# Altium integrated library QuickLogic pASIC 1.IntLib: 126 symbols (part 2 of 6)
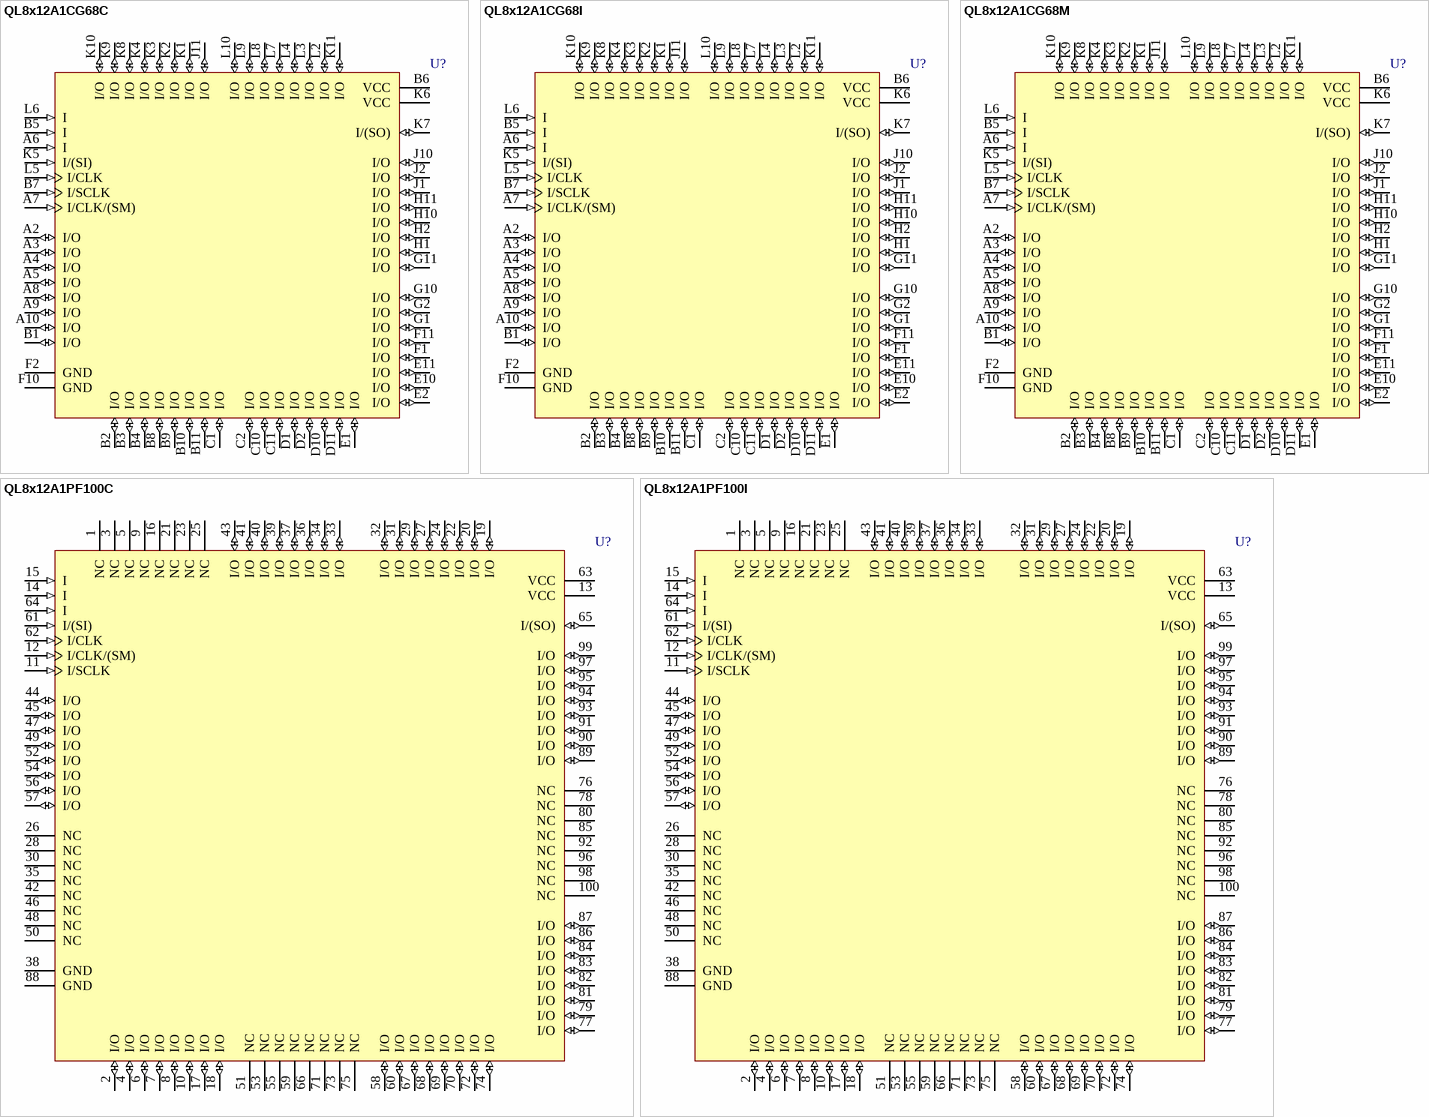
[diagram p29: symbols QL8x12A1CG68C to QL8x12A1PF100I]

## QL8x12A1CG68M
designator U?
Very-High-Speed 1 K (3K) Gate CMOS FPGA; Published: 8-Jun-2000; LatestRevisionDate: 04-Mar-2005; LatestRevisionNote: Stylized 3D Model Added.; DatasheetVersion: 1993; PackageVersion: 1994; PackageReference: CG68; Publisher: Altium Limited; PackageDescription: 69-Pin Ceramic Pin Grid Array 2.54 mm Pitch; ComponentLink1Description: Manufacturer Link; ComponentLink1URL: http://www.quicklogic.com/; ComponentLink2Description: Discontinuation Notice; ComponentLink2URL: http://www.quicklogic.com/images/EOL_Letter_General.pdf
footprint CG68 (PGA, 69-Leads, Body 28x28mm, Pitch 2.54mm)
3D model QL8x12A-CG69 (69-Pin Ceramic Pin Grid Array 2.54 mm Pitch)
pins: A2 I/O (io), A3 I/O (io), A4 I/O (io), A5 I/O (io), A6 I (in), A7 I/CLK/(SM) (in), A8 I/O (io), A9 I/O (io), A10 I/O (io), B1 I/O (io), B2 I/O (io), B3 I/O (io), B4 I/O (io), B5 I (in), B6 VCC (power), B7 I/SCLK (in), B8 I/O (io), B9 I/O (io), B10 I/O (io), B11 I/O (io), C1 I/O (io), C2 I/O (io), C10 I/O (io), C11 I/O (io), D1 I/O (io), D2 I/O (io), D10 I/O (io), D11 I/O (io), E1 I/O (io), E2 I/O (io), E10 I/O (io), E11 I/O (io), F1 I/O (io), F2 GND (power), F10 GND (power), F11 I/O (io), G1 I/O (io), G2 I/O (io), G10 I/O (io), G11 I/O (io), H1 I/O (io), H2 I/O (io), H10 I/O (io), H11 I/O (io), J1 I/O (io), J2 I/O (io), J10 I/O (io), J11 I/O (io), K1 I/O (io), K2 I/O (io), K3 I/O (io), K4 I/O (io), K5 I/(SI) (in), K6 VCC (power), K7 I/(SO) (io), K8 I/O (io), K9 I/O (io), K10 I/O (io), K11 I/O (io), L2 I/O (io), L3 I/O (io), L4 I/O (io), L5 I/CLK (in), L6 I (in), L7 I/O (io), L8 I/O (io), L9 I/O (io), L10 I/O (io)

## QL8x12A1PF100C
designator U?
Very-High-Speed 1 K (3K) Gate CMOS FPGA; Published: 8-Jun-2000; LatestRevisionDate: 13-Apr-2006; LatestRevisionNote: IPC-7351 Footprint Added.; DatasheetVersion: 1993; PackageVersion: Feb-2000; PackageReference: PF100; Publisher: Altium Limited; PackageDescription: 100-Pin Thin Quad Flat Pack 0.5 mm Pitch; Code_JEDEC: MO-136; ComponentLink1Description: Manufacturer Link; ComponentLink1URL: http://www.quicklogic.com/; ComponentLink2Description: Discontinuation Notice; ComponentLink2URL: http://www.quicklogic.com/images/EOL_Letter_General.pdf
footprint PF100_N (Thin QFP, 100-Leads, Body 14x14mm, Pitch 0.5mm, IPC Medium Density)
footprint PF100_L (Thin QFP, 100-Leads, Body 14x14mm, Pitch 0.5mm, IPC High Density)
footprint PF100_M (Thin QFP, 100-Leads, Body 14x14mm, Pitch 0.5mm, IPC Low Density)
3D model QL8x12A-PF100 (100-Pin Thin Quad Flat Pack 0.5 mm Pitch)
pins: 1 NC, 2 I/O (io), 3 NC, 4 I/O (io), 5 NC, 6 I/O (io), 7 I/O (io), 8 I/O (io), 9 NC, 10 I/O (io), 11 I/SCLK (in), 12 I/CLK/(SM) (in), 13 VCC (power), 14 I (in), 15 I (in), 16 NC, 17 I/O (io), 18 I/O (io), 19 I/O (io), 20 I/O (io), 21 NC, 22 I/O (io), 23 NC, 24 I/O (io), 25 NC, 26 NC, 27 I/O (io), 28 NC, 29 I/O (io), 30 NC, 31 I/O (io), 32 I/O (io), 33 I/O (io), 34 I/O (io), 35 NC, 36 I/O (io), 37 I/O (io), 38 GND (power), 39 I/O (io), 40 I/O (io), 41 I/O (io), 42 NC, 43 I/O (io), 44 I/O (io), 45 I/O (io), 46 NC, 47 I/O (io), 48 NC, 49 I/O (io), 50 NC, 51 NC, 52 I/O (io), 53 NC, 54 I/O (io), 55 NC, 56 I/O (io), 57 I/O (io), 58 I/O (io), 59 NC, 60 I/O (io), 61 I/(SI) (in), 62 I/CLK (in), 63 VCC (power), 64 I (in), 65 I/(SO) (io), 66 NC, 67 I/O (io), 68 I/O (io), 69 I/O (io), 70 I/O (io), 71 NC, 72 I/O (io), 73 NC, 74 I/O (io), 75 NC, 76 NC, 77 I/O (io), 78 NC, 79 I/O (io), 80 NC, 81 I/O (io), 82 I/O (io), 83 I/O (io), 84 I/O (io), 85 NC, 86 I/O (io), 87 I/O (io), 88 GND (power), 89 I/O (io), 90 I/O (io), 91 I/O (io), 92 NC, 93 I/O (io), 94 I/O (io), 95 I/O (io), 96 NC, 97 I/O (io), 98 NC, 99 I/O (io), 100 NC

## QL8x12A1PF100I
designator U?
Very-High-Speed 1 K (3K) Gate CMOS FPGA; Published: 8-Jun-2000; LatestRevisionDate: 13-Apr-2006; LatestRevisionNote: IPC-7351 Footprint Added.; DatasheetVersion: 1993; PackageVersion: Feb-2000; PackageReference: PF100; Publisher: Altium Limited; PackageDescription: 100-Pin Thin Quad Flat Pack 0.5 mm Pitch; Code_JEDEC: MO-136; ComponentLink1Description: Manufacturer Link; ComponentLink1URL: http://www.quicklogic.com/; ComponentLink2Description: Discontinuation Notice; ComponentLink2URL: http://www.quicklogic.com/images/EOL_Letter_General.pdf
footprint PF100_N (Thin QFP, 100-Leads, Body 14x14mm, Pitch 0.5mm, IPC Medium Density)
footprint PF100_L (Thin QFP, 100-Leads, Body 14x14mm, Pitch 0.5mm, IPC High Density)
footprint PF100_M (Thin QFP, 100-Leads, Body 14x14mm, Pitch 0.5mm, IPC Low Density)
3D model QL8x12A-PF100 (100-Pin Thin Quad Flat Pack 0.5 mm Pitch)
pins: 1 NC, 2 I/O (io), 3 NC, 4 I/O (io), 5 NC, 6 I/O (io), 7 I/O (io), 8 I/O (io), 9 NC, 10 I/O (io), 11 I/SCLK (in), 12 I/CLK/(SM) (in), 13 VCC (power), 14 I (in), 15 I (in), 16 NC, 17 I/O (io), 18 I/O (io), 19 I/O (io), 20 I/O (io), 21 NC, 22 I/O (io), 23 NC, 24 I/O (io), 25 NC, 26 NC, 27 I/O (io), 28 NC, 29 I/O (io), 30 NC, 31 I/O (io), 32 I/O (io), 33 I/O (io), 34 I/O (io), 35 NC, 36 I/O (io), 37 I/O (io), 38 GND (power), 39 I/O (io), 40 I/O (io), 41 I/O (io), 42 NC, 43 I/O (io), 44 I/O (io), 45 I/O (io), 46 NC, 47 I/O (io), 48 NC, 49 I/O (io), 50 NC, 51 NC, 52 I/O (io), 53 NC, 54 I/O (io), 55 NC, 56 I/O (io), 57 I/O (io), 58 I/O (io), 59 NC, 60 I/O (io), 61 I/(SI) (in), 62 I/CLK (in), 63 VCC (power), 64 I (in), 65 I/(SO) (io), 66 NC, 67 I/O (io), 68 I/O (io), 69 I/O (io), 70 I/O (io), 71 NC, 72 I/O (io), 73 NC, 74 I/O (io), 75 NC, 76 NC, 77 I/O (io), 78 NC, 79 I/O (io), 80 NC, 81 I/O (io), 82 I/O (io), 83 I/O (io), 84 I/O (io), 85 NC, 86 I/O (io), 87 I/O (io), 88 GND (power), 89 I/O (io), 90 I/O (io), 91 I/O (io), 92 NC, 93 I/O (io), 94 I/O (io), 95 I/O (io), 96 NC, 97 I/O (io), 98 NC, 99 I/O (io), 100 NC

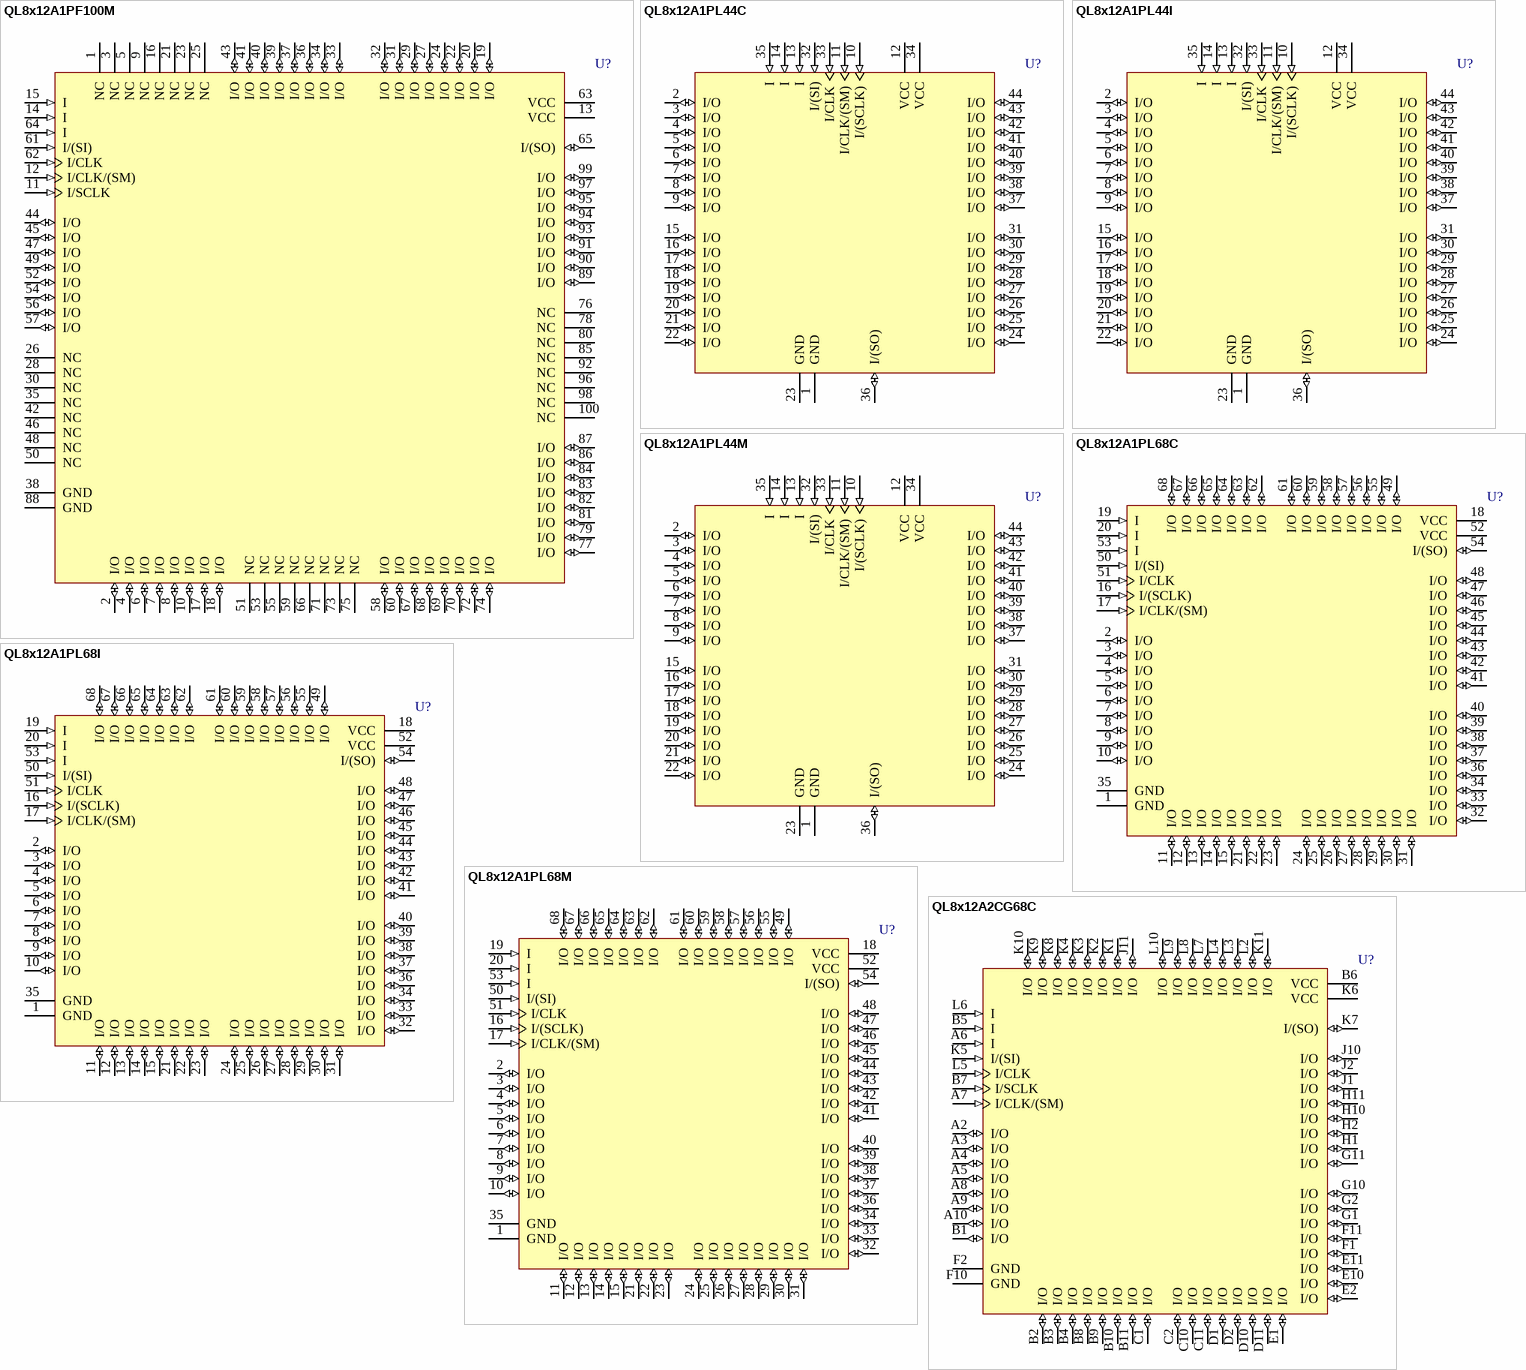
[diagram p4: symbols QL8x12A1PF100M to QL8x12A2CG68C]

## QL8x12A1PF100M
designator U?
Very-High-Speed 1 K (3K) Gate CMOS FPGA; Published: 8-Jun-2000; LatestRevisionDate: 13-Apr-2006; LatestRevisionNote: IPC-7351 Footprint Added.; DatasheetVersion: 1993; PackageVersion: Feb-2000; PackageReference: PF100; Publisher: Altium Limited; PackageDescription: 100-Pin Thin Quad Flat Pack 0.5 mm Pitch; Code_JEDEC: MO-136; ComponentLink1Description: Manufacturer Link; ComponentLink1URL: http://www.quicklogic.com/; ComponentLink2Description: Discontinuation Notice; ComponentLink2URL: http://www.quicklogic.com/images/EOL_Letter_General.pdf
footprint PF100_N (Thin QFP, 100-Leads, Body 14x14mm, Pitch 0.5mm, IPC Medium Density)
footprint PF100_L (Thin QFP, 100-Leads, Body 14x14mm, Pitch 0.5mm, IPC High Density)
footprint PF100_M (Thin QFP, 100-Leads, Body 14x14mm, Pitch 0.5mm, IPC Low Density)
3D model QL8x12A-PF100 (100-Pin Thin Quad Flat Pack 0.5 mm Pitch)
pins: 1 NC, 2 I/O (io), 3 NC, 4 I/O (io), 5 NC, 6 I/O (io), 7 I/O (io), 8 I/O (io), 9 NC, 10 I/O (io), 11 I/SCLK (in), 12 I/CLK/(SM) (in), 13 VCC (power), 14 I (in), 15 I (in), 16 NC, 17 I/O (io), 18 I/O (io), 19 I/O (io), 20 I/O (io), 21 NC, 22 I/O (io), 23 NC, 24 I/O (io), 25 NC, 26 NC, 27 I/O (io), 28 NC, 29 I/O (io), 30 NC, 31 I/O (io), 32 I/O (io), 33 I/O (io), 34 I/O (io), 35 NC, 36 I/O (io), 37 I/O (io), 38 GND (power), 39 I/O (io), 40 I/O (io), 41 I/O (io), 42 NC, 43 I/O (io), 44 I/O (io), 45 I/O (io), 46 NC, 47 I/O (io), 48 NC, 49 I/O (io), 50 NC, 51 NC, 52 I/O (io), 53 NC, 54 I/O (io), 55 NC, 56 I/O (io), 57 I/O (io), 58 I/O (io), 59 NC, 60 I/O (io), 61 I/(SI) (in), 62 I/CLK (in), 63 VCC (power), 64 I (in), 65 I/(SO) (io), 66 NC, 67 I/O (io), 68 I/O (io), 69 I/O (io), 70 I/O (io), 71 NC, 72 I/O (io), 73 NC, 74 I/O (io), 75 NC, 76 NC, 77 I/O (io), 78 NC, 79 I/O (io), 80 NC, 81 I/O (io), 82 I/O (io), 83 I/O (io), 84 I/O (io), 85 NC, 86 I/O (io), 87 I/O (io), 88 GND (power), 89 I/O (io), 90 I/O (io), 91 I/O (io), 92 NC, 93 I/O (io), 94 I/O (io), 95 I/O (io), 96 NC, 97 I/O (io), 98 NC, 99 I/O (io), 100 NC

## QL8x12A1PL44C
designator U?
Very-High-Speed 1 K (3K) Gate CMOS FPGA; Published: 8-Jun-2000; LatestRevisionDate: 13-Apr-2006; LatestRevisionNote: IPC-7351 Footprint Added.; DatasheetVersion: 1993; PackageVersion: 1999; PackageReference: PL44; Publisher: Altium Limited; PackageDescription: 44-Pin Plastic Leaded Chip Carrier 1.27 mm Pitch; Code_IPC: PLCC-44; ComponentLink1Description: Manufacturer Link; ComponentLink1URL: http://www.quicklogic.com/; ComponentLink2Description: Discontinuation Notice; ComponentLink2URL: http://www.quicklogic.com/images/EOL_Letter_General.pdf
footprint PL44_N (Leaded Chip Carrier, 44-Leads, Body 16.6x16.6mm, Pitch 1.27mm, IPC Medium Density)
footprint PL44_L (Leaded Chip Carrier, 44-Leads, Body 16.6x16.6mm, Pitch 1.27mm, IPC High Density)
footprint PL44_M (Leaded Chip Carrier, 44-Leads, Body 16.6x16.6mm, Pitch 1.27mm, IPC Low Density)
3D model QL8x12A-QCC-J44 (44-Pin Plastic Leaded Chip Carrier 1.27 mm Pitch)
pins: 1 GND (power), 2 I/O (io), 3 I/O (io), 4 I/O (io), 5 I/O (io), 6 I/O (io), 7 I/O (io), 8 I/O (io), 9 I/O (io), 10 I/(SCLK) (in), 11 I/CLK/(SM) (in), 12 VCC (power), 13 I (in), 14 I (in), 15 I/O (io), 16 I/O (io), 17 I/O (io), 18 I/O (io), 19 I/O (io), 20 I/O (io), 21 I/O (io), 22 I/O (io), 23 GND (power), 24 I/O (io), 25 I/O (io), 26 I/O (io), 27 I/O (io), 28 I/O (io), 29 I/O (io), 30 I/O (io), 31 I/O (io), 32 I/(SI) (in), 33 I/CLK (in), 34 VCC (power), 35 I (in), 36 I/(SO) (io), 37 I/O (io), 38 I/O (io), 39 I/O (io), 40 I/O (io), 41 I/O (io), 42 I/O (io), 43 I/O (io), 44 I/O (io)

## QL8x12A1PL44I
designator U?
Very-High-Speed 1 K (3K) Gate CMOS FPGA; Published: 8-Jun-2000; LatestRevisionDate: 13-Apr-2006; LatestRevisionNote: IPC-7351 Footprint Added.; DatasheetVersion: 1993; PackageVersion: 1999; PackageReference: PL44; Publisher: Altium Limited; PackageDescription: 44-Pin Plastic Leaded Chip Carrier 1.27 mm Pitch; Code_IPC: PLCC-44; ComponentLink1Description: Manufacturer Link; ComponentLink1URL: http://www.quicklogic.com/; ComponentLink2Description: Discontinuation Notice; ComponentLink2URL: http://www.quicklogic.com/images/EOL_Letter_General.pdf
footprint PL44_N (Leaded Chip Carrier, 44-Leads, Body 16.6x16.6mm, Pitch 1.27mm, IPC Medium Density)
footprint PL44_L (Leaded Chip Carrier, 44-Leads, Body 16.6x16.6mm, Pitch 1.27mm, IPC High Density)
footprint PL44_M (Leaded Chip Carrier, 44-Leads, Body 16.6x16.6mm, Pitch 1.27mm, IPC Low Density)
3D model QL8x12A-QCC-J44 (44-Pin Plastic Leaded Chip Carrier 1.27 mm Pitch)
pins: 1 GND (power), 2 I/O (io), 3 I/O (io), 4 I/O (io), 5 I/O (io), 6 I/O (io), 7 I/O (io), 8 I/O (io), 9 I/O (io), 10 I/(SCLK) (in), 11 I/CLK/(SM) (in), 12 VCC (power), 13 I (in), 14 I (in), 15 I/O (io), 16 I/O (io), 17 I/O (io), 18 I/O (io), 19 I/O (io), 20 I/O (io), 21 I/O (io), 22 I/O (io), 23 GND (power), 24 I/O (io), 25 I/O (io), 26 I/O (io), 27 I/O (io), 28 I/O (io), 29 I/O (io), 30 I/O (io), 31 I/O (io), 32 I/(SI) (in), 33 I/CLK (in), 34 VCC (power), 35 I (in), 36 I/(SO) (io), 37 I/O (io), 38 I/O (io), 39 I/O (io), 40 I/O (io), 41 I/O (io), 42 I/O (io), 43 I/O (io), 44 I/O (io)

## QL8x12A1PL44M
designator U?
Very-High-Speed 1 K (3K) Gate CMOS FPGA; Published: 8-Jun-2000; LatestRevisionDate: 13-Apr-2006; LatestRevisionNote: IPC-7351 Footprint Added.; DatasheetVersion: 1993; PackageVersion: 1999; PackageReference: PL44; Publisher: Altium Limited; PackageDescription: 44-Pin Plastic Leaded Chip Carrier 1.27 mm Pitch; Code_IPC: PLCC-44; ComponentLink1Description: Manufacturer Link; ComponentLink1URL: http://www.quicklogic.com/; ComponentLink2Description: Discontinuation Notice; ComponentLink2URL: http://www.quicklogic.com/images/EOL_Letter_General.pdf
footprint PL44_N (Leaded Chip Carrier, 44-Leads, Body 16.6x16.6mm, Pitch 1.27mm, IPC Medium Density)
footprint PL44_L (Leaded Chip Carrier, 44-Leads, Body 16.6x16.6mm, Pitch 1.27mm, IPC High Density)
footprint PL44_M (Leaded Chip Carrier, 44-Leads, Body 16.6x16.6mm, Pitch 1.27mm, IPC Low Density)
3D model QL8x12A-QCC-J44 (44-Pin Plastic Leaded Chip Carrier 1.27 mm Pitch)
pins: 1 GND (power), 2 I/O (io), 3 I/O (io), 4 I/O (io), 5 I/O (io), 6 I/O (io), 7 I/O (io), 8 I/O (io), 9 I/O (io), 10 I/(SCLK) (in), 11 I/CLK/(SM) (in), 12 VCC (power), 13 I (in), 14 I (in), 15 I/O (io), 16 I/O (io), 17 I/O (io), 18 I/O (io), 19 I/O (io), 20 I/O (io), 21 I/O (io), 22 I/O (io), 23 GND (power), 24 I/O (io), 25 I/O (io), 26 I/O (io), 27 I/O (io), 28 I/O (io), 29 I/O (io), 30 I/O (io), 31 I/O (io), 32 I/(SI) (in), 33 I/CLK (in), 34 VCC (power), 35 I (in), 36 I/(SO) (io), 37 I/O (io), 38 I/O (io), 39 I/O (io), 40 I/O (io), 41 I/O (io), 42 I/O (io), 43 I/O (io), 44 I/O (io)

## QL8x12A1PL68C
designator U?
Very-High-Speed 1 K (3K) Gate CMOS FPGA; Published: 8-Jun-2000; LatestRevisionDate: 13-Apr-2006; LatestRevisionNote: IPC-7351 Footprint Added.; DatasheetVersion: 1993; PackageVersion: Feb-1996; PackageReference: PL68; Publisher: Altium Limited; PackageDescription: 68-Pin Plastic Leaded Chip Carrier 1.27 mm Pitch; Code_IPC: PLCC-68; ComponentLink1Description: Manufacturer Link; ComponentLink1URL: http://www.quicklogic.com/; ComponentLink2Description: Discontinuation Notice; ComponentLink2URL: http://www.quicklogic.com/images/EOL_Letter_General.pdf
footprint PL68_N (Leaded Chip Carrier, 68-Leads, Body 24x24mm, Pitch 1.27mm, IPC Medium Density)
footprint PL68_L (Leaded Chip Carrier, 68-Leads, Body 24x24mm, Pitch 1.27mm, IPC High Density)
footprint PL68_M (Leaded Chip Carrier, 68-Leads, Body 24x24mm, Pitch 1.27mm, IPC Low Density)
3D model QL8x12A-QCC-J68 (68-Pin Plastic Leaded Chip Carrier 1.27 mm Pitch)
pins: 1 GND (power), 2 I/O (io), 3 I/O (io), 4 I/O (io), 5 I/O (io), 6 I/O (io), 7 I/O (io), 8 I/O (io), 9 I/O (io), 10 I/O (io), 11 I/O (io), 12 I/O (io), 13 I/O (io), 14 I/O (io), 15 I/O (io), 16 I/(SCLK) (in), 17 I/CLK/(SM) (in), 18 VCC (power), 19 I (in), 20 I (in), 21 I/O (io), 22 I/O (io), 23 I/O (io), 24 I/O (io), 25 I/O (io), 26 I/O (io), 27 I/O (io), 28 I/O (io), 29 I/O (io), 30 I/O (io), 31 I/O (io), 32 I/O (io), 33 I/O (io), 34 I/O (io), 35 GND (power), 36 I/O (io), 37 I/O (io), 38 I/O (io), 39 I/O (io), 40 I/O (io), 41 I/O (io), 42 I/O (io), 43 I/O (io), 44 I/O (io), 45 I/O (io), 46 I/O (io), 47 I/O (io), 48 I/O (io), 49 I/O (io), 50 I/(SI) (in), 51 I/CLK (in), 52 VCC (power), 53 I (in), 54 I/(SO) (io), 55 I/O (io), 56 I/O (io), 57 I/O (io), 58 I/O (io), 59 I/O (io), 60 I/O (io), 61 I/O (io), 62 I/O (io), 63 I/O (io), 64 I/O (io), 65 I/O (io), 66 I/O (io), 67 I/O (io), 68 I/O (io)

## QL8x12A1PL68I
designator U?
Very-High-Speed 1 K (3K) Gate CMOS FPGA; Published: 8-Jun-2000; LatestRevisionDate: 13-Apr-2006; LatestRevisionNote: IPC-7351 Footprint Added.; DatasheetVersion: 1993; PackageVersion: Feb-1996; PackageReference: PL68; Publisher: Altium Limited; PackageDescription: 68-Pin Plastic Leaded Chip Carrier 1.27 mm Pitch; Code_IPC: PLCC-68; ComponentLink1Description: Manufacturer Link; ComponentLink1URL: http://www.quicklogic.com/; ComponentLink2Description: Discontinuation Notice; ComponentLink2URL: http://www.quicklogic.com/images/EOL_Letter_General.pdf
footprint PL68_N (Leaded Chip Carrier, 68-Leads, Body 24x24mm, Pitch 1.27mm, IPC Medium Density)
footprint PL68_L (Leaded Chip Carrier, 68-Leads, Body 24x24mm, Pitch 1.27mm, IPC High Density)
footprint PL68_M (Leaded Chip Carrier, 68-Leads, Body 24x24mm, Pitch 1.27mm, IPC Low Density)
3D model QL8x12A-QCC-J68 (68-Pin Plastic Leaded Chip Carrier 1.27 mm Pitch)
pins: 1 GND (power), 2 I/O (io), 3 I/O (io), 4 I/O (io), 5 I/O (io), 6 I/O (io), 7 I/O (io), 8 I/O (io), 9 I/O (io), 10 I/O (io), 11 I/O (io), 12 I/O (io), 13 I/O (io), 14 I/O (io), 15 I/O (io), 16 I/(SCLK) (in), 17 I/CLK/(SM) (in), 18 VCC (power), 19 I (in), 20 I (in), 21 I/O (io), 22 I/O (io), 23 I/O (io), 24 I/O (io), 25 I/O (io), 26 I/O (io), 27 I/O (io), 28 I/O (io), 29 I/O (io), 30 I/O (io), 31 I/O (io), 32 I/O (io), 33 I/O (io), 34 I/O (io), 35 GND (power), 36 I/O (io), 37 I/O (io), 38 I/O (io), 39 I/O (io), 40 I/O (io), 41 I/O (io), 42 I/O (io), 43 I/O (io), 44 I/O (io), 45 I/O (io), 46 I/O (io), 47 I/O (io), 48 I/O (io), 49 I/O (io), 50 I/(SI) (in), 51 I/CLK (in), 52 VCC (power), 53 I (in), 54 I/(SO) (io), 55 I/O (io), 56 I/O (io), 57 I/O (io), 58 I/O (io), 59 I/O (io), 60 I/O (io), 61 I/O (io), 62 I/O (io), 63 I/O (io), 64 I/O (io), 65 I/O (io), 66 I/O (io), 67 I/O (io), 68 I/O (io)

## QL8x12A1PL68M
designator U?
Very-High-Speed 1 K (3K) Gate CMOS FPGA; Published: 8-Jun-2000; LatestRevisionDate: 13-Apr-2006; LatestRevisionNote: IPC-7351 Footprint Added.; DatasheetVersion: 1993; PackageVersion: Feb-1996; PackageReference: PL68; Publisher: Altium Limited; PackageDescription: 68-Pin Plastic Leaded Chip Carrier 1.27 mm Pitch; Code_IPC: PLCC-68; ComponentLink1Description: Manufacturer Link; ComponentLink1URL: http://www.quicklogic.com/; ComponentLink2Description: Discontinuation Notice; ComponentLink2URL: http://www.quicklogic.com/images/EOL_Letter_General.pdf
footprint PL68_N (Leaded Chip Carrier, 68-Leads, Body 24x24mm, Pitch 1.27mm, IPC Medium Density)
footprint PL68_L (Leaded Chip Carrier, 68-Leads, Body 24x24mm, Pitch 1.27mm, IPC High Density)
footprint PL68_M (Leaded Chip Carrier, 68-Leads, Body 24x24mm, Pitch 1.27mm, IPC Low Density)
3D model QL8x12A-QCC-J68 (68-Pin Plastic Leaded Chip Carrier 1.27 mm Pitch)
pins: 1 GND (power), 2 I/O (io), 3 I/O (io), 4 I/O (io), 5 I/O (io), 6 I/O (io), 7 I/O (io), 8 I/O (io), 9 I/O (io), 10 I/O (io), 11 I/O (io), 12 I/O (io), 13 I/O (io), 14 I/O (io), 15 I/O (io), 16 I/(SCLK) (in), 17 I/CLK/(SM) (in), 18 VCC (power), 19 I (in), 20 I (in), 21 I/O (io), 22 I/O (io), 23 I/O (io), 24 I/O (io), 25 I/O (io), 26 I/O (io), 27 I/O (io), 28 I/O (io), 29 I/O (io), 30 I/O (io), 31 I/O (io), 32 I/O (io), 33 I/O (io), 34 I/O (io), 35 GND (power), 36 I/O (io), 37 I/O (io), 38 I/O (io), 39 I/O (io), 40 I/O (io), 41 I/O (io), 42 I/O (io), 43 I/O (io), 44 I/O (io), 45 I/O (io), 46 I/O (io), 47 I/O (io), 48 I/O (io), 49 I/O (io), 50 I/(SI) (in), 51 I/CLK (in), 52 VCC (power), 53 I (in), 54 I/(SO) (io), 55 I/O (io), 56 I/O (io), 57 I/O (io), 58 I/O (io), 59 I/O (io), 60 I/O (io), 61 I/O (io), 62 I/O (io), 63 I/O (io), 64 I/O (io), 65 I/O (io), 66 I/O (io), 67 I/O (io), 68 I/O (io)

## QL8x12A2CG68C
designator U?
Very-High-Speed 1 K (3K) Gate CMOS FPGA; Published: 8-Jun-2000; LatestRevisionDate: 04-Mar-2005; LatestRevisionNote: Stylized 3D Model Added.; DatasheetVersion: 1993; PackageVersion: 1994; PackageReference: CG68; Publisher: Altium Limited; PackageDescription: 69-Pin Ceramic Pin Grid Array 2.54 mm Pitch; ComponentLink1Description: Manufacturer Link; ComponentLink1URL: http://www.quicklogic.com/; ComponentLink2Description: Discontinuation Notice; ComponentLink2URL: http://www.quicklogic.com/images/EOL_Letter_General.pdf
footprint CG68 (PGA, 69-Leads, Body 28x28mm, Pitch 2.54mm)
3D model QL8x12A-CG69 (69-Pin Ceramic Pin Grid Array 2.54 mm Pitch)
pins: A2 I/O (io), A3 I/O (io), A4 I/O (io), A5 I/O (io), A6 I (in), A7 I/CLK/(SM) (in), A8 I/O (io), A9 I/O (io), A10 I/O (io), B1 I/O (io), B2 I/O (io), B3 I/O (io), B4 I/O (io), B5 I (in), B6 VCC (power), B7 I/SCLK (in), B8 I/O (io), B9 I/O (io), B10 I/O (io), B11 I/O (io), C1 I/O (io), C2 I/O (io), C10 I/O (io), C11 I/O (io), D1 I/O (io), D2 I/O (io), D10 I/O (io), D11 I/O (io), E1 I/O (io), E2 I/O (io), E10 I/O (io), E11 I/O (io), F1 I/O (io), F2 GND (power), F10 GND (power), F11 I/O (io), G1 I/O (io), G2 I/O (io), G10 I/O (io), G11 I/O (io), H1 I/O (io), H2 I/O (io), H10 I/O (io), H11 I/O (io), J1 I/O (io), J2 I/O (io), J10 I/O (io), J11 I/O (io), K1 I/O (io), K2 I/O (io), K3 I/O (io), K4 I/O (io), K5 I/(SI) (in), K6 VCC (power), K7 I/(SO) (io), K8 I/O (io), K9 I/O (io), K10 I/O (io), K11 I/O (io), L2 I/O (io), L3 I/O (io), L4 I/O (io), L5 I/CLK (in), L6 I (in), L7 I/O (io), L8 I/O (io), L9 I/O (io), L10 I/O (io)

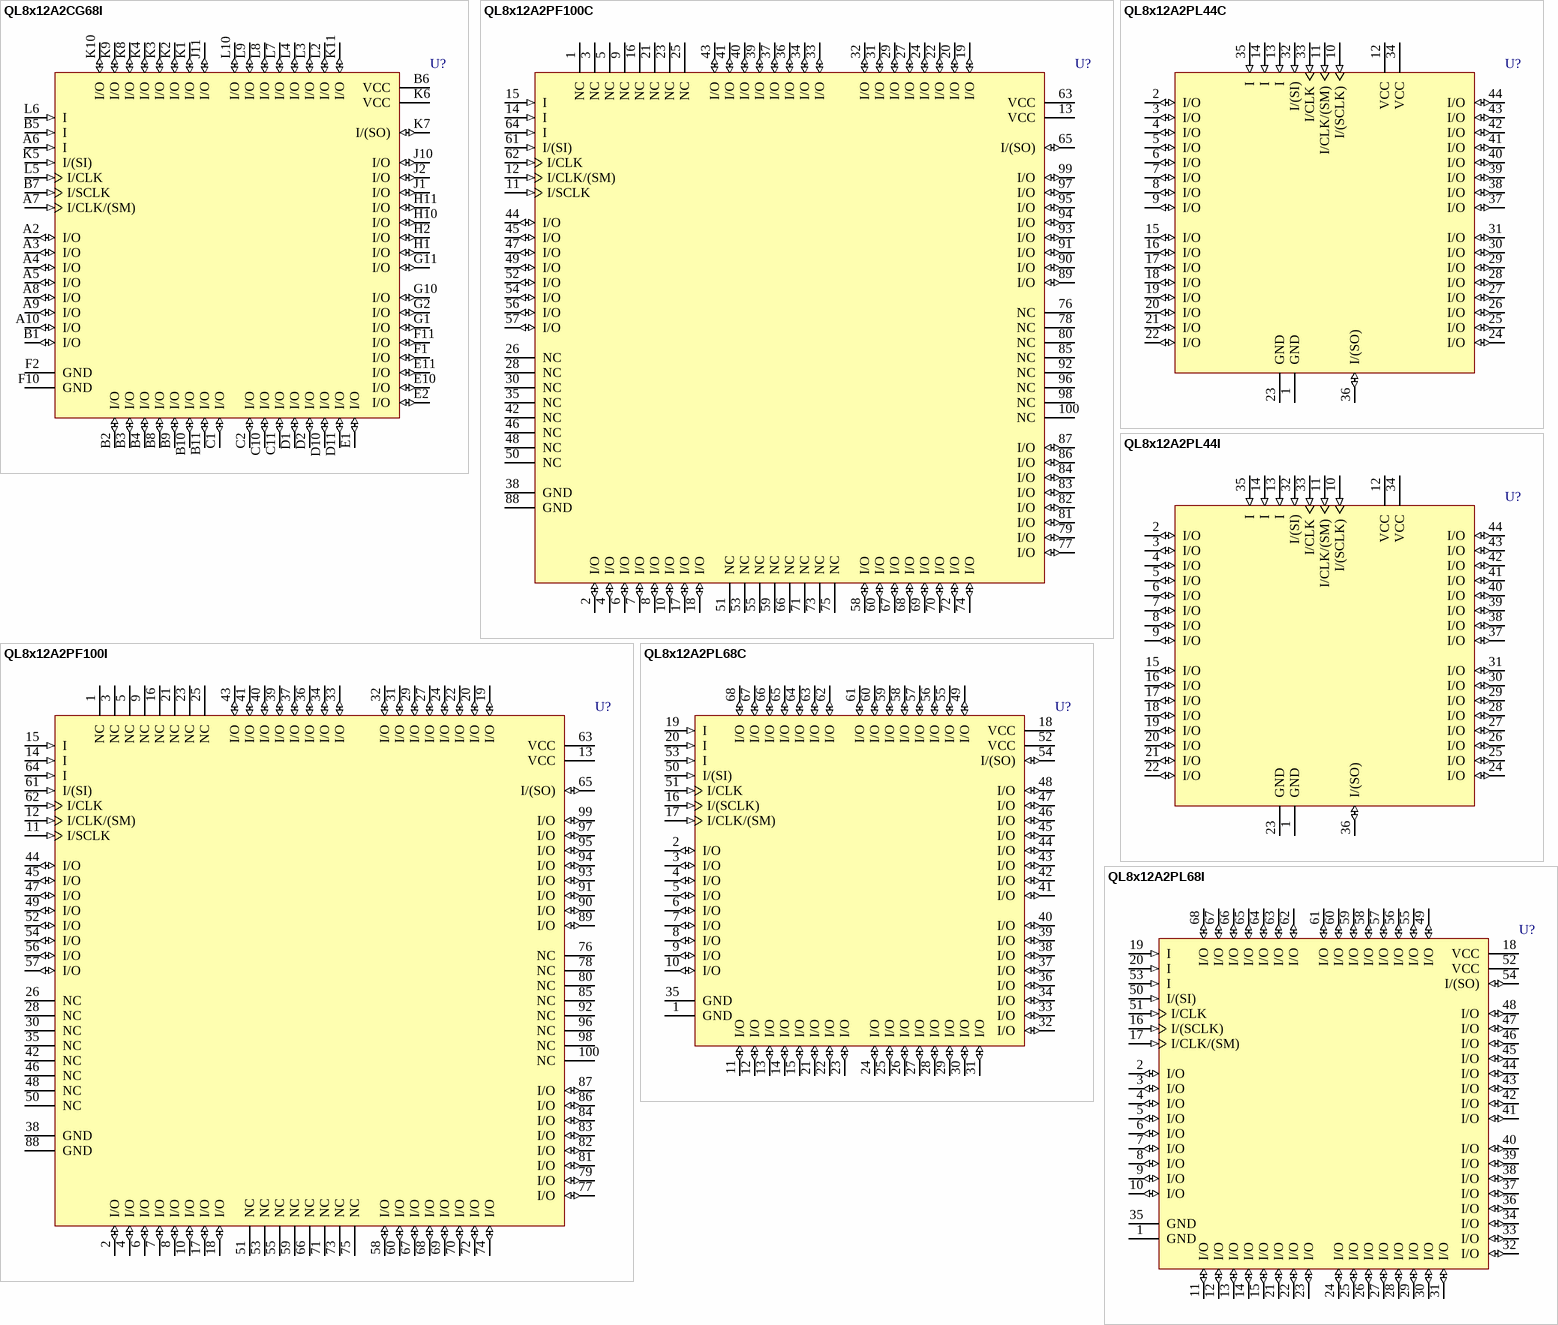
[diagram p5: symbols QL8x12A2CG68I to QL8x12A2PL68I]

## QL8x12A2CG68I
designator U?
Very-High-Speed 1 K (3K) Gate CMOS FPGA; Published: 8-Jun-2000; LatestRevisionDate: 04-Mar-2005; LatestRevisionNote: Stylized 3D Model Added.; DatasheetVersion: 1993; PackageVersion: 1994; PackageReference: CG68; Publisher: Altium Limited; PackageDescription: 69-Pin Ceramic Pin Grid Array 2.54 mm Pitch; ComponentLink1Description: Manufacturer Link; ComponentLink1URL: http://www.quicklogic.com/; ComponentLink2Description: Discontinuation Notice; ComponentLink2URL: http://www.quicklogic.com/images/EOL_Letter_General.pdf
footprint CG68 (PGA, 69-Leads, Body 28x28mm, Pitch 2.54mm)
3D model QL8x12A-CG69 (69-Pin Ceramic Pin Grid Array 2.54 mm Pitch)
pins: A2 I/O (io), A3 I/O (io), A4 I/O (io), A5 I/O (io), A6 I (in), A7 I/CLK/(SM) (in), A8 I/O (io), A9 I/O (io), A10 I/O (io), B1 I/O (io), B2 I/O (io), B3 I/O (io), B4 I/O (io), B5 I (in), B6 VCC (power), B7 I/SCLK (in), B8 I/O (io), B9 I/O (io), B10 I/O (io), B11 I/O (io), C1 I/O (io), C2 I/O (io), C10 I/O (io), C11 I/O (io), D1 I/O (io), D2 I/O (io), D10 I/O (io), D11 I/O (io), E1 I/O (io), E2 I/O (io), E10 I/O (io), E11 I/O (io), F1 I/O (io), F2 GND (power), F10 GND (power), F11 I/O (io), G1 I/O (io), G2 I/O (io), G10 I/O (io), G11 I/O (io), H1 I/O (io), H2 I/O (io), H10 I/O (io), H11 I/O (io), J1 I/O (io), J2 I/O (io), J10 I/O (io), J11 I/O (io), K1 I/O (io), K2 I/O (io), K3 I/O (io), K4 I/O (io), K5 I/(SI) (in), K6 VCC (power), K7 I/(SO) (io), K8 I/O (io), K9 I/O (io), K10 I/O (io), K11 I/O (io), L2 I/O (io), L3 I/O (io), L4 I/O (io), L5 I/CLK (in), L6 I (in), L7 I/O (io), L8 I/O (io), L9 I/O (io), L10 I/O (io)

## QL8x12A2PF100C
designator U?
Very-High-Speed 1 K (3K) Gate CMOS FPGA; Published: 8-Jun-2000; LatestRevisionDate: 13-Apr-2006; LatestRevisionNote: IPC-7351 Footprint Added.; DatasheetVersion: 1993; PackageVersion: Feb-2000; PackageReference: PF100; Publisher: Altium Limited; PackageDescription: 100-Pin Thin Quad Flat Pack 0.5 mm Pitch; Code_JEDEC: MO-136; ComponentLink1Description: Manufacturer Link; ComponentLink1URL: http://www.quicklogic.com/; ComponentLink2Description: Discontinuation Notice; ComponentLink2URL: http://www.quicklogic.com/images/EOL_Letter_General.pdf
footprint PF100_N (Thin QFP, 100-Leads, Body 14x14mm, Pitch 0.5mm, IPC Medium Density)
footprint PF100_L (Thin QFP, 100-Leads, Body 14x14mm, Pitch 0.5mm, IPC High Density)
footprint PF100_M (Thin QFP, 100-Leads, Body 14x14mm, Pitch 0.5mm, IPC Low Density)
3D model QL8x12A-PF100 (100-Pin Thin Quad Flat Pack 0.5 mm Pitch)
pins: 1 NC, 2 I/O (io), 3 NC, 4 I/O (io), 5 NC, 6 I/O (io), 7 I/O (io), 8 I/O (io), 9 NC, 10 I/O (io), 11 I/SCLK (in), 12 I/CLK/(SM) (in), 13 VCC (power), 14 I (in), 15 I (in), 16 NC, 17 I/O (io), 18 I/O (io), 19 I/O (io), 20 I/O (io), 21 NC, 22 I/O (io), 23 NC, 24 I/O (io), 25 NC, 26 NC, 27 I/O (io), 28 NC, 29 I/O (io), 30 NC, 31 I/O (io), 32 I/O (io), 33 I/O (io), 34 I/O (io), 35 NC, 36 I/O (io), 37 I/O (io), 38 GND (power), 39 I/O (io), 40 I/O (io), 41 I/O (io), 42 NC, 43 I/O (io), 44 I/O (io), 45 I/O (io), 46 NC, 47 I/O (io), 48 NC, 49 I/O (io), 50 NC, 51 NC, 52 I/O (io), 53 NC, 54 I/O (io), 55 NC, 56 I/O (io), 57 I/O (io), 58 I/O (io), 59 NC, 60 I/O (io), 61 I/(SI) (in), 62 I/CLK (in), 63 VCC (power), 64 I (in), 65 I/(SO) (io), 66 NC, 67 I/O (io), 68 I/O (io), 69 I/O (io), 70 I/O (io), 71 NC, 72 I/O (io), 73 NC, 74 I/O (io), 75 NC, 76 NC, 77 I/O (io), 78 NC, 79 I/O (io), 80 NC, 81 I/O (io), 82 I/O (io), 83 I/O (io), 84 I/O (io), 85 NC, 86 I/O (io), 87 I/O (io), 88 GND (power), 89 I/O (io), 90 I/O (io), 91 I/O (io), 92 NC, 93 I/O (io), 94 I/O (io), 95 I/O (io), 96 NC, 97 I/O (io), 98 NC, 99 I/O (io), 100 NC

## QL8x12A2PF100I
designator U?
Very-High-Speed 1 K (3K) Gate CMOS FPGA; Published: 8-Jun-2000; LatestRevisionDate: 13-Apr-2006; LatestRevisionNote: IPC-7351 Footprint Added.; DatasheetVersion: 1993; PackageVersion: Feb-2000; PackageReference: PF100; Publisher: Altium Limited; PackageDescription: 100-Pin Thin Quad Flat Pack 0.5 mm Pitch; Code_JEDEC: MO-136; ComponentLink1Description: Manufacturer Link; ComponentLink1URL: http://www.quicklogic.com/; ComponentLink2Description: Discontinuation Notice; ComponentLink2URL: http://www.quicklogic.com/images/EOL_Letter_General.pdf
footprint PF100_N (Thin QFP, 100-Leads, Body 14x14mm, Pitch 0.5mm, IPC Medium Density)
footprint PF100_L (Thin QFP, 100-Leads, Body 14x14mm, Pitch 0.5mm, IPC High Density)
footprint PF100_M (Thin QFP, 100-Leads, Body 14x14mm, Pitch 0.5mm, IPC Low Density)
3D model QL8x12A-PF100 (100-Pin Thin Quad Flat Pack 0.5 mm Pitch)
pins: 1 NC, 2 I/O (io), 3 NC, 4 I/O (io), 5 NC, 6 I/O (io), 7 I/O (io), 8 I/O (io), 9 NC, 10 I/O (io), 11 I/SCLK (in), 12 I/CLK/(SM) (in), 13 VCC (power), 14 I (in), 15 I (in), 16 NC, 17 I/O (io), 18 I/O (io), 19 I/O (io), 20 I/O (io), 21 NC, 22 I/O (io), 23 NC, 24 I/O (io), 25 NC, 26 NC, 27 I/O (io), 28 NC, 29 I/O (io), 30 NC, 31 I/O (io), 32 I/O (io), 33 I/O (io), 34 I/O (io), 35 NC, 36 I/O (io), 37 I/O (io), 38 GND (power), 39 I/O (io), 40 I/O (io), 41 I/O (io), 42 NC, 43 I/O (io), 44 I/O (io), 45 I/O (io), 46 NC, 47 I/O (io), 48 NC, 49 I/O (io), 50 NC, 51 NC, 52 I/O (io), 53 NC, 54 I/O (io), 55 NC, 56 I/O (io), 57 I/O (io), 58 I/O (io), 59 NC, 60 I/O (io), 61 I/(SI) (in), 62 I/CLK (in), 63 VCC (power), 64 I (in), 65 I/(SO) (io), 66 NC, 67 I/O (io), 68 I/O (io), 69 I/O (io), 70 I/O (io), 71 NC, 72 I/O (io), 73 NC, 74 I/O (io), 75 NC, 76 NC, 77 I/O (io), 78 NC, 79 I/O (io), 80 NC, 81 I/O (io), 82 I/O (io), 83 I/O (io), 84 I/O (io), 85 NC, 86 I/O (io), 87 I/O (io), 88 GND (power), 89 I/O (io), 90 I/O (io), 91 I/O (io), 92 NC, 93 I/O (io), 94 I/O (io), 95 I/O (io), 96 NC, 97 I/O (io), 98 NC, 99 I/O (io), 100 NC

## QL8x12A2PL44C
designator U?
Very-High-Speed 1 K (3K) Gate CMOS FPGA; Published: 8-Jun-2000; LatestRevisionDate: 13-Apr-2006; LatestRevisionNote: IPC-7351 Footprint Added.; DatasheetVersion: 1993; PackageVersion: 1999; PackageReference: PL44; Publisher: Altium Limited; PackageDescription: 44-Pin Plastic Leaded Chip Carrier 1.27 mm Pitch; Code_IPC: PLCC-44; ComponentLink1Description: Manufacturer Link; ComponentLink1URL: http://www.quicklogic.com/; ComponentLink2Description: Discontinuation Notice; ComponentLink2URL: http://www.quicklogic.com/images/EOL_Letter_General.pdf
footprint PL44_N (Leaded Chip Carrier, 44-Leads, Body 16.6x16.6mm, Pitch 1.27mm, IPC Medium Density)
footprint PL44_L (Leaded Chip Carrier, 44-Leads, Body 16.6x16.6mm, Pitch 1.27mm, IPC High Density)
footprint PL44_M (Leaded Chip Carrier, 44-Leads, Body 16.6x16.6mm, Pitch 1.27mm, IPC Low Density)
3D model QL8x12A-QCC-J44 (44-Pin Plastic Leaded Chip Carrier 1.27 mm Pitch)
pins: 1 GND (power), 2 I/O (io), 3 I/O (io), 4 I/O (io), 5 I/O (io), 6 I/O (io), 7 I/O (io), 8 I/O (io), 9 I/O (io), 10 I/(SCLK) (in), 11 I/CLK/(SM) (in), 12 VCC (power), 13 I (in), 14 I (in), 15 I/O (io), 16 I/O (io), 17 I/O (io), 18 I/O (io), 19 I/O (io), 20 I/O (io), 21 I/O (io), 22 I/O (io), 23 GND (power), 24 I/O (io), 25 I/O (io), 26 I/O (io), 27 I/O (io), 28 I/O (io), 29 I/O (io), 30 I/O (io), 31 I/O (io), 32 I/(SI) (in), 33 I/CLK (in), 34 VCC (power), 35 I (in), 36 I/(SO) (io), 37 I/O (io), 38 I/O (io), 39 I/O (io), 40 I/O (io), 41 I/O (io), 42 I/O (io), 43 I/O (io), 44 I/O (io)

## QL8x12A2PL44I
designator U?
Very-High-Speed 1 K (3K) Gate CMOS FPGA; Published: 8-Jun-2000; LatestRevisionDate: 13-Apr-2006; LatestRevisionNote: IPC-7351 Footprint Added.; DatasheetVersion: 1993; PackageVersion: 1999; PackageReference: PL44; Publisher: Altium Limited; PackageDescription: 44-Pin Plastic Leaded Chip Carrier 1.27 mm Pitch; Code_IPC: PLCC-44; ComponentLink1Description: Manufacturer Link; ComponentLink1URL: http://www.quicklogic.com/; ComponentLink2Description: Discontinuation Notice; ComponentLink2URL: http://www.quicklogic.com/images/EOL_Letter_General.pdf
footprint PL44_N (Leaded Chip Carrier, 44-Leads, Body 16.6x16.6mm, Pitch 1.27mm, IPC Medium Density)
footprint PL44_L (Leaded Chip Carrier, 44-Leads, Body 16.6x16.6mm, Pitch 1.27mm, IPC High Density)
footprint PL44_M (Leaded Chip Carrier, 44-Leads, Body 16.6x16.6mm, Pitch 1.27mm, IPC Low Density)
3D model QL8x12A-QCC-J44 (44-Pin Plastic Leaded Chip Carrier 1.27 mm Pitch)
pins: 1 GND (power), 2 I/O (io), 3 I/O (io), 4 I/O (io), 5 I/O (io), 6 I/O (io), 7 I/O (io), 8 I/O (io), 9 I/O (io), 10 I/(SCLK) (in), 11 I/CLK/(SM) (in), 12 VCC (power), 13 I (in), 14 I (in), 15 I/O (io), 16 I/O (io), 17 I/O (io), 18 I/O (io), 19 I/O (io), 20 I/O (io), 21 I/O (io), 22 I/O (io), 23 GND (power), 24 I/O (io), 25 I/O (io), 26 I/O (io), 27 I/O (io), 28 I/O (io), 29 I/O (io), 30 I/O (io), 31 I/O (io), 32 I/(SI) (in), 33 I/CLK (in), 34 VCC (power), 35 I (in), 36 I/(SO) (io), 37 I/O (io), 38 I/O (io), 39 I/O (io), 40 I/O (io), 41 I/O (io), 42 I/O (io), 43 I/O (io), 44 I/O (io)

## QL8x12A2PL68C
designator U?
Very-High-Speed 1 K (3K) Gate CMOS FPGA; Published: 8-Jun-2000; LatestRevisionDate: 13-Apr-2006; LatestRevisionNote: IPC-7351 Footprint Added.; DatasheetVersion: 1993; PackageVersion: Feb-1996; PackageReference: PL68; Publisher: Altium Limited; PackageDescription: 68-Pin Plastic Leaded Chip Carrier 1.27 mm Pitch; Code_IPC: PLCC-68; ComponentLink1Description: Manufacturer Link; ComponentLink1URL: http://www.quicklogic.com/; ComponentLink2Description: Discontinuation Notice; ComponentLink2URL: http://www.quicklogic.com/images/EOL_Letter_General.pdf
footprint PL68_N (Leaded Chip Carrier, 68-Leads, Body 24x24mm, Pitch 1.27mm, IPC Medium Density)
footprint PL68_L (Leaded Chip Carrier, 68-Leads, Body 24x24mm, Pitch 1.27mm, IPC High Density)
footprint PL68_M (Leaded Chip Carrier, 68-Leads, Body 24x24mm, Pitch 1.27mm, IPC Low Density)
3D model QL8x12A-QCC-J68 (68-Pin Plastic Leaded Chip Carrier 1.27 mm Pitch)
pins: 1 GND (power), 2 I/O (io), 3 I/O (io), 4 I/O (io), 5 I/O (io), 6 I/O (io), 7 I/O (io), 8 I/O (io), 9 I/O (io), 10 I/O (io), 11 I/O (io), 12 I/O (io), 13 I/O (io), 14 I/O (io), 15 I/O (io), 16 I/(SCLK) (in), 17 I/CLK/(SM) (in), 18 VCC (power), 19 I (in), 20 I (in), 21 I/O (io), 22 I/O (io), 23 I/O (io), 24 I/O (io), 25 I/O (io), 26 I/O (io), 27 I/O (io), 28 I/O (io), 29 I/O (io), 30 I/O (io), 31 I/O (io), 32 I/O (io), 33 I/O (io), 34 I/O (io), 35 GND (power), 36 I/O (io), 37 I/O (io), 38 I/O (io), 39 I/O (io), 40 I/O (io), 41 I/O (io), 42 I/O (io), 43 I/O (io), 44 I/O (io), 45 I/O (io), 46 I/O (io), 47 I/O (io), 48 I/O (io), 49 I/O (io), 50 I/(SI) (in), 51 I/CLK (in), 52 VCC (power), 53 I (in), 54 I/(SO) (io), 55 I/O (io), 56 I/O (io), 57 I/O (io), 58 I/O (io), 59 I/O (io), 60 I/O (io), 61 I/O (io), 62 I/O (io), 63 I/O (io), 64 I/O (io), 65 I/O (io), 66 I/O (io), 67 I/O (io), 68 I/O (io)

## QL8x12A2PL68I
designator U?
Very-High-Speed 1 K (3K) Gate CMOS FPGA; Published: 8-Jun-2000; LatestRevisionDate: 13-Apr-2006; LatestRevisionNote: IPC-7351 Footprint Added.; DatasheetVersion: 1993; PackageVersion: Feb-1996; PackageReference: PL68; Publisher: Altium Limited; PackageDescription: 68-Pin Plastic Leaded Chip Carrier 1.27 mm Pitch; Code_IPC: PLCC-68; ComponentLink1Description: Manufacturer Link; ComponentLink1URL: http://www.quicklogic.com/; ComponentLink2Description: Discontinuation Notice; ComponentLink2URL: http://www.quicklogic.com/images/EOL_Letter_General.pdf
footprint PL68_N (Leaded Chip Carrier, 68-Leads, Body 24x24mm, Pitch 1.27mm, IPC Medium Density)
footprint PL68_L (Leaded Chip Carrier, 68-Leads, Body 24x24mm, Pitch 1.27mm, IPC High Density)
footprint PL68_M (Leaded Chip Carrier, 68-Leads, Body 24x24mm, Pitch 1.27mm, IPC Low Density)
3D model QL8x12A-QCC-J68 (68-Pin Plastic Leaded Chip Carrier 1.27 mm Pitch)
pins: 1 GND (power), 2 I/O (io), 3 I/O (io), 4 I/O (io), 5 I/O (io), 6 I/O (io), 7 I/O (io), 8 I/O (io), 9 I/O (io), 10 I/O (io), 11 I/O (io), 12 I/O (io), 13 I/O (io), 14 I/O (io), 15 I/O (io), 16 I/(SCLK) (in), 17 I/CLK/(SM) (in), 18 VCC (power), 19 I (in), 20 I (in), 21 I/O (io), 22 I/O (io), 23 I/O (io), 24 I/O (io), 25 I/O (io), 26 I/O (io), 27 I/O (io), 28 I/O (io), 29 I/O (io), 30 I/O (io), 31 I/O (io), 32 I/O (io), 33 I/O (io), 34 I/O (io), 35 GND (power), 36 I/O (io), 37 I/O (io), 38 I/O (io), 39 I/O (io), 40 I/O (io), 41 I/O (io), 42 I/O (io), 43 I/O (io), 44 I/O (io), 45 I/O (io), 46 I/O (io), 47 I/O (io), 48 I/O (io), 49 I/O (io), 50 I/(SI) (in), 51 I/CLK (in), 52 VCC (power), 53 I (in), 54 I/(SO) (io), 55 I/O (io), 56 I/O (io), 57 I/O (io), 58 I/O (io), 59 I/O (io), 60 I/O (io), 61 I/O (io), 62 I/O (io), 63 I/O (io), 64 I/O (io), 65 I/O (io), 66 I/O (io), 67 I/O (io), 68 I/O (io)

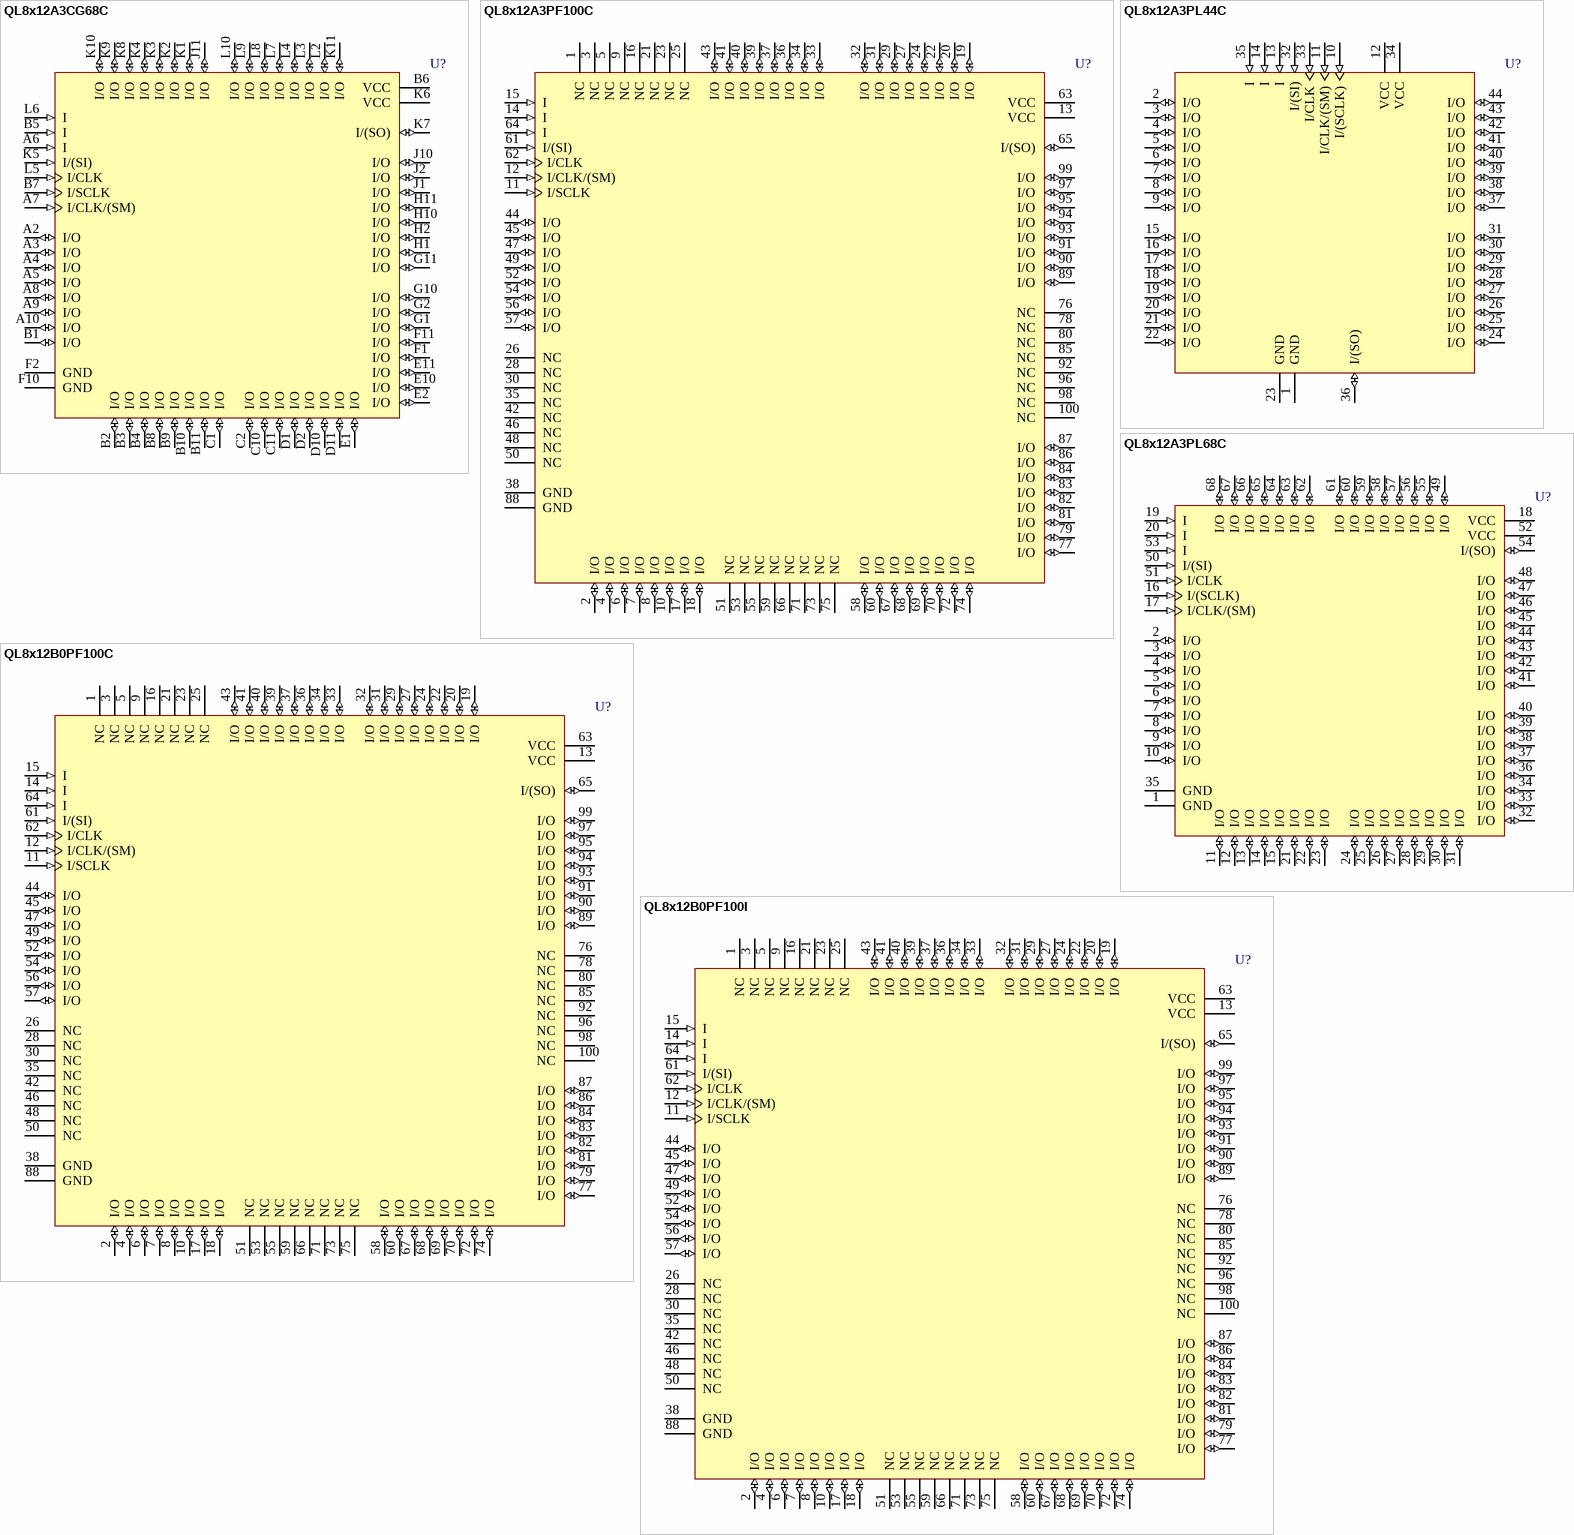
[diagram p6: symbols QL8x12A3CG68C to QL8x12B0PF100I]

## QL8x12A3CG68C
designator U?
Very-High-Speed 1 K (3K) Gate CMOS FPGA; Published: 8-Jun-2000; LatestRevisionDate: 04-Mar-2005; LatestRevisionNote: Stylized 3D Model Added.; DatasheetVersion: 1993; PackageVersion: 1994; PackageReference: CG68; Publisher: Altium Limited; PackageDescription: 69-Pin Ceramic Pin Grid Array 2.54 mm Pitch; ComponentLink1Description: Manufacturer Link; ComponentLink1URL: http://www.quicklogic.com/; ComponentLink2Description: Discontinuation Notice; ComponentLink2URL: http://www.quicklogic.com/images/EOL_Letter_General.pdf
footprint CG68 (PGA, 69-Leads, Body 28x28mm, Pitch 2.54mm)
3D model QL8x12A-CG69 (69-Pin Ceramic Pin Grid Array 2.54 mm Pitch)
pins: A2 I/O (io), A3 I/O (io), A4 I/O (io), A5 I/O (io), A6 I (in), A7 I/CLK/(SM) (in), A8 I/O (io), A9 I/O (io), A10 I/O (io), B1 I/O (io), B2 I/O (io), B3 I/O (io), B4 I/O (io), B5 I (in), B6 VCC (power), B7 I/SCLK (in), B8 I/O (io), B9 I/O (io), B10 I/O (io), B11 I/O (io), C1 I/O (io), C2 I/O (io), C10 I/O (io), C11 I/O (io), D1 I/O (io), D2 I/O (io), D10 I/O (io), D11 I/O (io), E1 I/O (io), E2 I/O (io), E10 I/O (io), E11 I/O (io), F1 I/O (io), F2 GND (power), F10 GND (power), F11 I/O (io), G1 I/O (io), G2 I/O (io), G10 I/O (io), G11 I/O (io), H1 I/O (io), H2 I/O (io), H10 I/O (io), H11 I/O (io), J1 I/O (io), J2 I/O (io), J10 I/O (io), J11 I/O (io), K1 I/O (io), K2 I/O (io), K3 I/O (io), K4 I/O (io), K5 I/(SI) (in), K6 VCC (power), K7 I/(SO) (io), K8 I/O (io), K9 I/O (io), K10 I/O (io), K11 I/O (io), L2 I/O (io), L3 I/O (io), L4 I/O (io), L5 I/CLK (in), L6 I (in), L7 I/O (io), L8 I/O (io), L9 I/O (io), L10 I/O (io)

## QL8x12A3PF100C
designator U?
Very-High-Speed 1 K (3K) Gate CMOS FPGA; Published: 8-Jun-2000; LatestRevisionDate: 13-Apr-2006; LatestRevisionNote: IPC-7351 Footprint Added.; DatasheetVersion: 1993; PackageVersion: Feb-2000; PackageReference: PF100; Publisher: Altium Limited; PackageDescription: 100-Pin Thin Quad Flat Pack 0.5 mm Pitch; Code_JEDEC: MO-136; ComponentLink1Description: Manufacturer Link; ComponentLink1URL: http://www.quicklogic.com/; ComponentLink2Description: Discontinuation Notice; ComponentLink2URL: http://www.quicklogic.com/images/EOL_Letter_General.pdf
footprint PF100_N (Thin QFP, 100-Leads, Body 14x14mm, Pitch 0.5mm, IPC Medium Density)
footprint PF100_L (Thin QFP, 100-Leads, Body 14x14mm, Pitch 0.5mm, IPC High Density)
footprint PF100_M (Thin QFP, 100-Leads, Body 14x14mm, Pitch 0.5mm, IPC Low Density)
3D model QL8x12A-PF100 (100-Pin Thin Quad Flat Pack 0.5 mm Pitch)
pins: 1 NC, 2 I/O (io), 3 NC, 4 I/O (io), 5 NC, 6 I/O (io), 7 I/O (io), 8 I/O (io), 9 NC, 10 I/O (io), 11 I/SCLK (in), 12 I/CLK/(SM) (in), 13 VCC (power), 14 I (in), 15 I (in), 16 NC, 17 I/O (io), 18 I/O (io), 19 I/O (io), 20 I/O (io), 21 NC, 22 I/O (io), 23 NC, 24 I/O (io), 25 NC, 26 NC, 27 I/O (io), 28 NC, 29 I/O (io), 30 NC, 31 I/O (io), 32 I/O (io), 33 I/O (io), 34 I/O (io), 35 NC, 36 I/O (io), 37 I/O (io), 38 GND (power), 39 I/O (io), 40 I/O (io), 41 I/O (io), 42 NC, 43 I/O (io), 44 I/O (io), 45 I/O (io), 46 NC, 47 I/O (io), 48 NC, 49 I/O (io), 50 NC, 51 NC, 52 I/O (io), 53 NC, 54 I/O (io), 55 NC, 56 I/O (io), 57 I/O (io), 58 I/O (io), 59 NC, 60 I/O (io), 61 I/(SI) (in), 62 I/CLK (in), 63 VCC (power), 64 I (in), 65 I/(SO) (io), 66 NC, 67 I/O (io), 68 I/O (io), 69 I/O (io), 70 I/O (io), 71 NC, 72 I/O (io), 73 NC, 74 I/O (io), 75 NC, 76 NC, 77 I/O (io), 78 NC, 79 I/O (io), 80 NC, 81 I/O (io), 82 I/O (io), 83 I/O (io), 84 I/O (io), 85 NC, 86 I/O (io), 87 I/O (io), 88 GND (power), 89 I/O (io), 90 I/O (io), 91 I/O (io), 92 NC, 93 I/O (io), 94 I/O (io), 95 I/O (io), 96 NC, 97 I/O (io), 98 NC, 99 I/O (io), 100 NC

## QL8x12A3PL44C
designator U?
Very-High-Speed 1 K (3K) Gate CMOS FPGA; Published: 8-Jun-2000; LatestRevisionDate: 13-Apr-2006; LatestRevisionNote: IPC-7351 Footprint Added.; DatasheetVersion: 1993; PackageVersion: 1999; PackageReference: PL44; Publisher: Altium Limited; PackageDescription: 44-Pin Plastic Leaded Chip Carrier 1.27 mm Pitch; Code_IPC: PLCC-44; ComponentLink1Description: Manufacturer Link; ComponentLink1URL: http://www.quicklogic.com/; ComponentLink2Description: Discontinuation Notice; ComponentLink2URL: http://www.quicklogic.com/images/EOL_Letter_General.pdf
footprint PL44_N (Leaded Chip Carrier, 44-Leads, Body 16.6x16.6mm, Pitch 1.27mm, IPC Medium Density)
footprint PL44_L (Leaded Chip Carrier, 44-Leads, Body 16.6x16.6mm, Pitch 1.27mm, IPC High Density)
footprint PL44_M (Leaded Chip Carrier, 44-Leads, Body 16.6x16.6mm, Pitch 1.27mm, IPC Low Density)
3D model QL8x12A-QCC-J44 (44-Pin Plastic Leaded Chip Carrier 1.27 mm Pitch)
pins: 1 GND (power), 2 I/O (io), 3 I/O (io), 4 I/O (io), 5 I/O (io), 6 I/O (io), 7 I/O (io), 8 I/O (io), 9 I/O (io), 10 I/(SCLK) (in), 11 I/CLK/(SM) (in), 12 VCC (power), 13 I (in), 14 I (in), 15 I/O (io), 16 I/O (io), 17 I/O (io), 18 I/O (io), 19 I/O (io), 20 I/O (io), 21 I/O (io), 22 I/O (io), 23 GND (power), 24 I/O (io), 25 I/O (io), 26 I/O (io), 27 I/O (io), 28 I/O (io), 29 I/O (io), 30 I/O (io), 31 I/O (io), 32 I/(SI) (in), 33 I/CLK (in), 34 VCC (power), 35 I (in), 36 I/(SO) (io), 37 I/O (io), 38 I/O (io), 39 I/O (io), 40 I/O (io), 41 I/O (io), 42 I/O (io), 43 I/O (io), 44 I/O (io)

## QL8x12A3PL68C
designator U?
Very-High-Speed 1 K (3K) Gate CMOS FPGA; Published: 8-Jun-2000; LatestRevisionDate: 13-Apr-2006; LatestRevisionNote: IPC-7351 Footprint Added.; DatasheetVersion: 1993; PackageVersion: Feb-1996; PackageReference: PL68; Publisher: Altium Limited; PackageDescription: 68-Pin Plastic Leaded Chip Carrier 1.27 mm Pitch; Code_IPC: PLCC-68; ComponentLink1Description: Manufacturer Link; ComponentLink1URL: http://www.quicklogic.com/; ComponentLink2Description: Discontinuation Notice; ComponentLink2URL: http://www.quicklogic.com/images/EOL_Letter_General.pdf
footprint PL68_N (Leaded Chip Carrier, 68-Leads, Body 24x24mm, Pitch 1.27mm, IPC Medium Density)
footprint PL68_L (Leaded Chip Carrier, 68-Leads, Body 24x24mm, Pitch 1.27mm, IPC High Density)
footprint PL68_M (Leaded Chip Carrier, 68-Leads, Body 24x24mm, Pitch 1.27mm, IPC Low Density)
3D model QL8x12A-QCC-J68 (68-Pin Plastic Leaded Chip Carrier 1.27 mm Pitch)
pins: 1 GND (power), 2 I/O (io), 3 I/O (io), 4 I/O (io), 5 I/O (io), 6 I/O (io), 7 I/O (io), 8 I/O (io), 9 I/O (io), 10 I/O (io), 11 I/O (io), 12 I/O (io), 13 I/O (io), 14 I/O (io), 15 I/O (io), 16 I/(SCLK) (in), 17 I/CLK/(SM) (in), 18 VCC (power), 19 I (in), 20 I (in), 21 I/O (io), 22 I/O (io), 23 I/O (io), 24 I/O (io), 25 I/O (io), 26 I/O (io), 27 I/O (io), 28 I/O (io), 29 I/O (io), 30 I/O (io), 31 I/O (io), 32 I/O (io), 33 I/O (io), 34 I/O (io), 35 GND (power), 36 I/O (io), 37 I/O (io), 38 I/O (io), 39 I/O (io), 40 I/O (io), 41 I/O (io), 42 I/O (io), 43 I/O (io), 44 I/O (io), 45 I/O (io), 46 I/O (io), 47 I/O (io), 48 I/O (io), 49 I/O (io), 50 I/(SI) (in), 51 I/CLK (in), 52 VCC (power), 53 I (in), 54 I/(SO) (io), 55 I/O (io), 56 I/O (io), 57 I/O (io), 58 I/O (io), 59 I/O (io), 60 I/O (io), 61 I/O (io), 62 I/O (io), 63 I/O (io), 64 I/O (io), 65 I/O (io), 66 I/O (io), 67 I/O (io), 68 I/O (io)

## QL8x12B0PF100C
designator U?
Very-High-Speed CMOS FPGA; Published: 8-Jun-2000; LatestRevisionDate: 13-Apr-2006; LatestRevisionNote: IPC-7351 Footprint Added.; DatasheetVersion: 1999; PackageVersion: Feb-2000; PackageReference: PF100; Publisher: Altium Limited; PackageDescription: 100-Pin Thin Quad Flat Pack 0.5 mm Pitch; Code_JEDEC: MO-136; ComponentLink1Description: Manufacturer Link; ComponentLink1URL: http://www.quicklogic.com/; ComponentLink2Description: Datasheet; ComponentLink2URL: http://www.quicklogic.com/images/QL8x12b_DS.pdf; ComponentLink3Description: Discontinuation Notice; ComponentLink3URL: http://www.quicklogic.com/images/EOL_Letter_General.pdf
footprint PF100_N (Thin QFP, 100-Leads, Body 14x14mm, Pitch 0.5mm, IPC Medium Density)
footprint PF100_L (Thin QFP, 100-Leads, Body 14x14mm, Pitch 0.5mm, IPC High Density)
footprint PF100_M (Thin QFP, 100-Leads, Body 14x14mm, Pitch 0.5mm, IPC Low Density)
3D model QL8x12B-PF100 (100-Pin Thin Quad Flat Pack 0.5 mm Pitch)
pins: 1 NC, 2 I/O (io), 3 NC, 4 I/O (io), 5 NC, 6 I/O (io), 7 I/O (io), 8 I/O (io), 9 NC, 10 I/O (io), 11 I/SCLK (in), 12 I/CLK/(SM) (in), 13 VCC (power), 14 I (in), 15 I (in), 16 NC, 17 I/O (io), 18 I/O (io), 19 I/O (io), 20 I/O (io), 21 NC, 22 I/O (io), 23 NC, 24 I/O (io), 25 NC, 26 NC, 27 I/O (io), 28 NC, 29 I/O (io), 30 NC, 31 I/O (io), 32 I/O (io), 33 I/O (io), 34 I/O (io), 35 NC, 36 I/O (io), 37 I/O (io), 38 GND (power), 39 I/O (io), 40 I/O (io), 41 I/O (io), 42 NC, 43 I/O (io), 44 I/O (io), 45 I/O (io), 46 NC, 47 I/O (io), 48 NC, 49 I/O (io), 50 NC, 51 NC, 52 I/O (io), 53 NC, 54 I/O (io), 55 NC, 56 I/O (io), 57 I/O (io), 58 I/O (io), 59 NC, 60 I/O (io), 61 I/(SI) (in), 62 I/CLK (in), 63 VCC (power), 64 I (in), 65 I/(SO) (io), 66 NC, 67 I/O (io), 68 I/O (io), 69 I/O (io), 70 I/O (io), 71 NC, 72 I/O (io), 73 NC, 74 I/O (io), 75 NC, 76 NC, 77 I/O (io), 78 NC, 79 I/O (io), 80 NC, 81 I/O (io), 82 I/O (io), 83 I/O (io), 84 I/O (io), 85 NC, 86 I/O (io), 87 I/O (io), 88 GND (power), 89 I/O (io), 90 I/O (io), 91 I/O (io), 92 NC, 93 I/O (io), 94 I/O (io), 95 I/O (io), 96 NC, 97 I/O (io), 98 NC, 99 I/O (io), 100 NC

## QL8x12B0PF100I
designator U?
Very-High-Speed CMOS FPGA; Published: 8-Jun-2000; LatestRevisionDate: 13-Apr-2006; LatestRevisionNote: IPC-7351 Footprint Added.; DatasheetVersion: 1999; PackageVersion: Feb-2000; PackageReference: PF100; Publisher: Altium Limited; PackageDescription: 100-Pin Thin Quad Flat Pack 0.5 mm Pitch; Code_JEDEC: MO-136; ComponentLink1Description: Manufacturer Link; ComponentLink1URL: http://www.quicklogic.com/; ComponentLink2Description: Datasheet; ComponentLink2URL: http://www.quicklogic.com/images/QL8x12b_DS.pdf; ComponentLink3Description: Discontinuation Notice; ComponentLink3URL: http://www.quicklogic.com/images/EOL_Letter_General.pdf
footprint PF100_N (Thin QFP, 100-Leads, Body 14x14mm, Pitch 0.5mm, IPC Medium Density)
footprint PF100_L (Thin QFP, 100-Leads, Body 14x14mm, Pitch 0.5mm, IPC High Density)
footprint PF100_M (Thin QFP, 100-Leads, Body 14x14mm, Pitch 0.5mm, IPC Low Density)
3D model QL8x12B-PF100 (100-Pin Thin Quad Flat Pack 0.5 mm Pitch)
pins: 1 NC, 2 I/O (io), 3 NC, 4 I/O (io), 5 NC, 6 I/O (io), 7 I/O (io), 8 I/O (io), 9 NC, 10 I/O (io), 11 I/SCLK (in), 12 I/CLK/(SM) (in), 13 VCC (power), 14 I (in), 15 I (in), 16 NC, 17 I/O (io), 18 I/O (io), 19 I/O (io), 20 I/O (io), 21 NC, 22 I/O (io), 23 NC, 24 I/O (io), 25 NC, 26 NC, 27 I/O (io), 28 NC, 29 I/O (io), 30 NC, 31 I/O (io), 32 I/O (io), 33 I/O (io), 34 I/O (io), 35 NC, 36 I/O (io), 37 I/O (io), 38 GND (power), 39 I/O (io), 40 I/O (io), 41 I/O (io), 42 NC, 43 I/O (io), 44 I/O (io), 45 I/O (io), 46 NC, 47 I/O (io), 48 NC, 49 I/O (io), 50 NC, 51 NC, 52 I/O (io), 53 NC, 54 I/O (io), 55 NC, 56 I/O (io), 57 I/O (io), 58 I/O (io), 59 NC, 60 I/O (io), 61 I/(SI) (in), 62 I/CLK (in), 63 VCC (power), 64 I (in), 65 I/(SO) (io), 66 NC, 67 I/O (io), 68 I/O (io), 69 I/O (io), 70 I/O (io), 71 NC, 72 I/O (io), 73 NC, 74 I/O (io), 75 NC, 76 NC, 77 I/O (io), 78 NC, 79 I/O (io), 80 NC, 81 I/O (io), 82 I/O (io), 83 I/O (io), 84 I/O (io), 85 NC, 86 I/O (io), 87 I/O (io), 88 GND (power), 89 I/O (io), 90 I/O (io), 91 I/O (io), 92 NC, 93 I/O (io), 94 I/O (io), 95 I/O (io), 96 NC, 97 I/O (io), 98 NC, 99 I/O (io), 100 NC

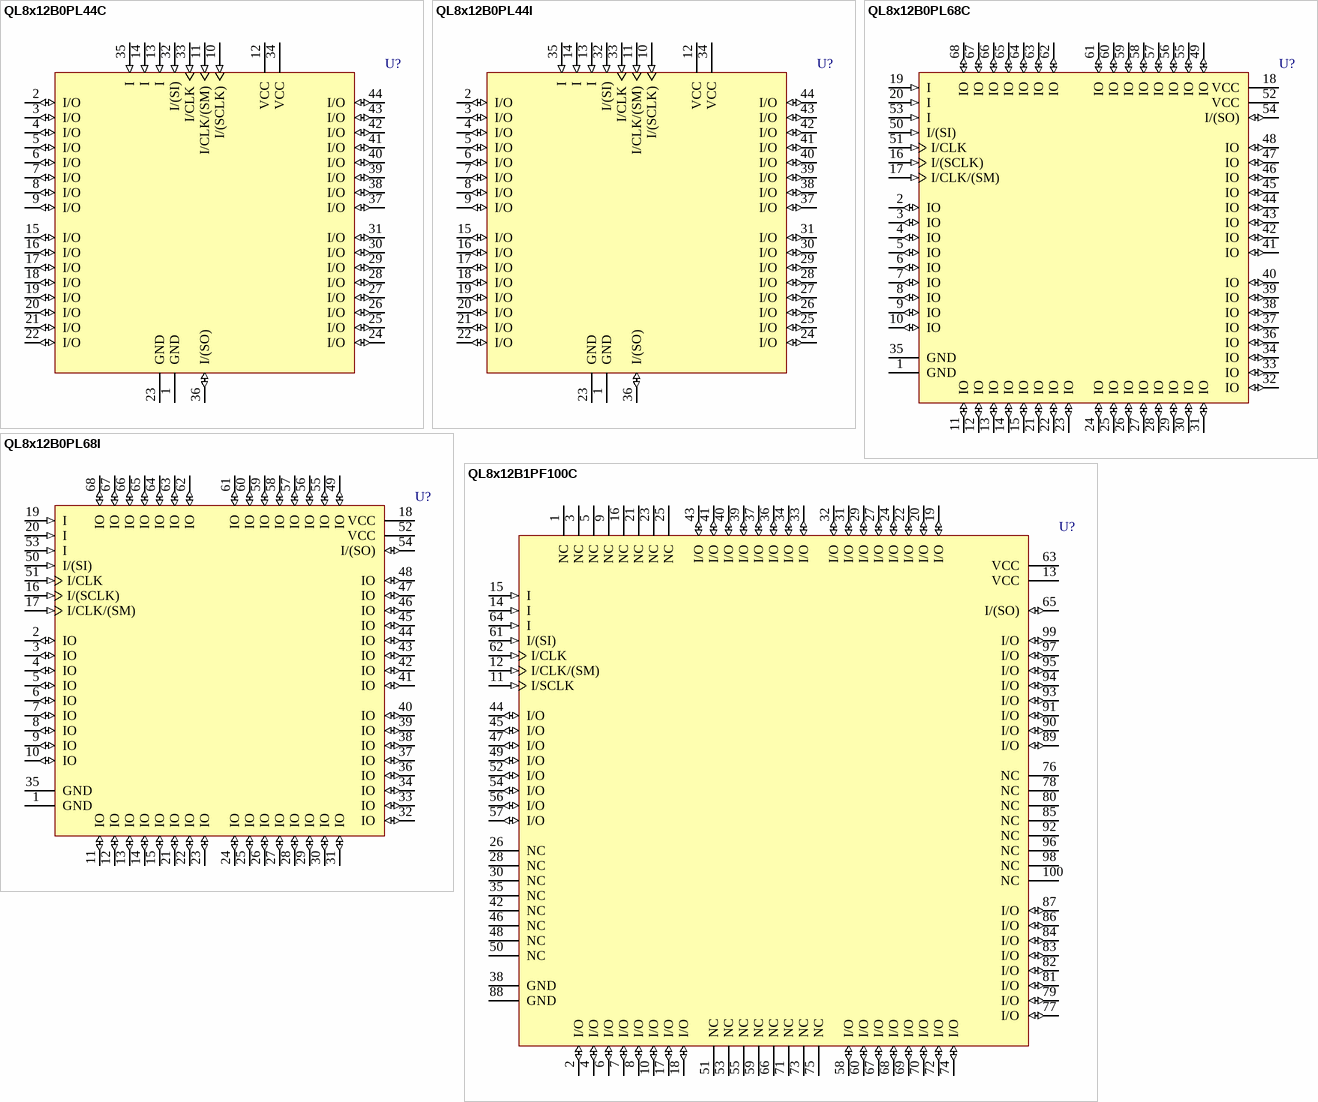
[diagram p7: symbols QL8x12B0PL44C to QL8x12B1PF100C]

## QL8x12B0PL44C
designator U?
Very-High-Speed CMOS FPGA; Published: 8-Jun-2000; LatestRevisionDate: 13-Apr-2006; LatestRevisionNote: IPC-7351 Footprint Added.; DatasheetVersion: 1999; PackageVersion: 1999; PackageReference: PL44; Publisher: Altium Limited; PackageDescription: 44-Pin Plastic Leaded Chip Carrier 1.27 mm Pitch; Code_IPC: PLCC-44; ComponentLink1Description: Manufacturer Link; ComponentLink1URL: http://www.quicklogic.com/; ComponentLink2Description: Datasheet; ComponentLink2URL: http://www.quicklogic.com/images/QL8x12b_DS.pdf; ComponentLink3Description: Discontinuation Notice; ComponentLink3URL: http://www.quicklogic.com/images/EOL_Letter_General.pdf
footprint PL44_N (Leaded Chip Carrier, 44-Leads, Body 16.6x16.6mm, Pitch 1.27mm, IPC Medium Density)
footprint PL44_L (Leaded Chip Carrier, 44-Leads, Body 16.6x16.6mm, Pitch 1.27mm, IPC High Density)
footprint PL44_M (Leaded Chip Carrier, 44-Leads, Body 16.6x16.6mm, Pitch 1.27mm, IPC Low Density)
3D model QL8x12B-QCC-J44 (44-Pin Plastic Leaded Chip Carrier 1.27 mm Pitch)
pins: 1 GND (power), 2 I/O (io), 3 I/O (io), 4 I/O (io), 5 I/O (io), 6 I/O (io), 7 I/O (io), 8 I/O (io), 9 I/O (io), 10 I/(SCLK) (in), 11 I/CLK/(SM) (in), 12 VCC (power), 13 I (in), 14 I (in), 15 I/O (io), 16 I/O (io), 17 I/O (io), 18 I/O (io), 19 I/O (io), 20 I/O (io), 21 I/O (io), 22 I/O (io), 23 GND (power), 24 I/O (io), 25 I/O (io), 26 I/O (io), 27 I/O (io), 28 I/O (io), 29 I/O (io), 30 I/O (io), 31 I/O (io), 32 I/(SI) (in), 33 I/CLK (in), 34 VCC (power), 35 I (in), 36 I/(SO) (io), 37 I/O (io), 38 I/O (io), 39 I/O (io), 40 I/O (io), 41 I/O (io), 42 I/O (io), 43 I/O (io), 44 I/O (io)

## QL8x12B0PL44I
designator U?
Very-High-Speed CMOS FPGA; Published: 8-Jun-2000; LatestRevisionDate: 13-Apr-2006; LatestRevisionNote: IPC-7351 Footprint Added.; DatasheetVersion: 1999; PackageVersion: 1999; PackageReference: PL44; Publisher: Altium Limited; PackageDescription: 44-Pin Plastic Leaded Chip Carrier 1.27 mm Pitch; Code_IPC: PLCC-44; ComponentLink1Description: Manufacturer Link; ComponentLink1URL: http://www.quicklogic.com/; ComponentLink2Description: Datasheet; ComponentLink2URL: http://www.quicklogic.com/images/QL8x12b_DS.pdf; ComponentLink3Description: Discontinuation Notice; ComponentLink3URL: http://www.quicklogic.com/images/EOL_Letter_General.pdf
footprint PL44_N (Leaded Chip Carrier, 44-Leads, Body 16.6x16.6mm, Pitch 1.27mm, IPC Medium Density)
footprint PL44_L (Leaded Chip Carrier, 44-Leads, Body 16.6x16.6mm, Pitch 1.27mm, IPC High Density)
footprint PL44_M (Leaded Chip Carrier, 44-Leads, Body 16.6x16.6mm, Pitch 1.27mm, IPC Low Density)
3D model QL8x12B-QCC-J44 (44-Pin Plastic Leaded Chip Carrier 1.27 mm Pitch)
pins: 1 GND (power), 2 I/O (io), 3 I/O (io), 4 I/O (io), 5 I/O (io), 6 I/O (io), 7 I/O (io), 8 I/O (io), 9 I/O (io), 10 I/(SCLK) (in), 11 I/CLK/(SM) (in), 12 VCC (power), 13 I (in), 14 I (in), 15 I/O (io), 16 I/O (io), 17 I/O (io), 18 I/O (io), 19 I/O (io), 20 I/O (io), 21 I/O (io), 22 I/O (io), 23 GND (power), 24 I/O (io), 25 I/O (io), 26 I/O (io), 27 I/O (io), 28 I/O (io), 29 I/O (io), 30 I/O (io), 31 I/O (io), 32 I/(SI) (in), 33 I/CLK (in), 34 VCC (power), 35 I (in), 36 I/(SO) (io), 37 I/O (io), 38 I/O (io), 39 I/O (io), 40 I/O (io), 41 I/O (io), 42 I/O (io), 43 I/O (io), 44 I/O (io)

## QL8x12B0PL68C
designator U?
Very-High-Speed CMOS FPGA; Published: 8-Jun-2000; LatestRevisionDate: 13-Apr-2006; LatestRevisionNote: IPC-7351 Footprint Added.; DatasheetVersion: 1999; PackageVersion: Feb-1996; PackageReference: PL68; Publisher: Altium Limited; PackageDescription: 68-Pin Plastic Leaded Chip Carrier 1.27 mm Pitch; Code_IPC: PLCC-68; ComponentLink1Description: Manufacturer Link; ComponentLink1URL: http://www.quicklogic.com/; ComponentLink2Description: Datasheet; ComponentLink2URL: http://www.quicklogic.com/images/QL8x12b_DS.pdf; ComponentLink3Description: Discontinuation Notice; ComponentLink3URL: http://www.quicklogic.com/images/EOL_Letter_General.pdf
footprint PL68_N (Leaded Chip Carrier, 68-Leads, Body 24x24mm, Pitch 1.27mm, IPC Medium Density)
footprint PL68_L (Leaded Chip Carrier, 68-Leads, Body 24x24mm, Pitch 1.27mm, IPC High Density)
footprint PL68_M (Leaded Chip Carrier, 68-Leads, Body 24x24mm, Pitch 1.27mm, IPC Low Density)
3D model QL8x12B-QCC-J68 (68-Pin Plastic Leaded Chip Carrier 1.27 mm Pitch)
pins: 1 GND (power), 2 IO (io), 3 IO (io), 4 IO (io), 5 IO (io), 6 IO (io), 7 IO (io), 8 IO (io), 9 IO (io), 10 IO (io), 11 IO (io), 12 IO (io), 13 IO (io), 14 IO (io), 15 IO (io), 16 I/(SCLK) (in), 17 I/CLK/(SM) (in), 18 VCC (power), 19 I (in), 20 I (in), 21 IO (io), 22 IO (io), 23 IO (io), 24 IO (io), 25 IO (io), 26 IO (io), 27 IO (io), 28 IO (io), 29 IO (io), 30 IO (io), 31 IO (io), 32 IO (io), 33 IO (io), 34 IO (io), 35 GND (power), 36 IO (io), 37 IO (io), 38 IO (io), 39 IO (io), 40 IO (io), 41 IO (io), 42 IO (io), 43 IO (io), 44 IO (io), 45 IO (io), 46 IO (io), 47 IO (io), 48 IO (io), 49 IO (io), 50 I/(SI) (in), 51 I/CLK (in), 52 VCC (power), 53 I (in), 54 I/(SO) (io), 55 IO (io), 56 IO (io), 57 IO (io), 58 IO (io), 59 IO (io), 60 IO (io), 61 IO (io), 62 IO (io), 63 IO (io), 64 IO (io), 65 IO (io), 66 IO (io), 67 IO (io), 68 IO (io)